# EAGLE library part HRS_DM3D (library connectors)
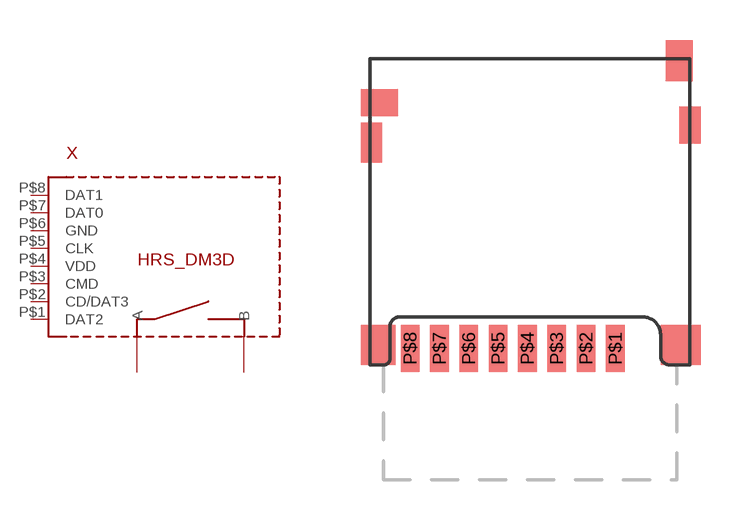
[diagram p6: symbol with the pads of HRS-DM3D; footprint HRS-DM3D]

Designator prefix X

## HRS_DM3D  [HRS-DM3D]
P$1  DAT2
P$2  CD/DAT3
P$3  CMD
P$4  VDD  pwr
P$5  CLK
P$6  GND  pwr
P$7  DAT0
P$8  DAT1

## Footprint HRS-DM3D (pad centres in mm)
smd 0.7 x 1.75: P$1 7.7,-0.875; P$2 6.6,-0.875; P$3 5.5,-0.875; P$4 4.4,-0.875; P$5 3.3,-0.875; P$6 2.2,-0.875; P$7 1.1,-0.875; P$8 0,-0.875